# Altium schematic symbol library IND,10uH,150mA,Wirewound,0805.Schlib: 1 symbol
Pins are listed as number, name and electrical type; pins without a type are passive.

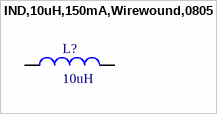
[diagram p0: symbol IND,10uH,150mA,Wirewound,0805]

## IND,10uH,150mA,Wirewound,0805
designator L?, comment 10uH
FIXED IND 10UH 150MA 360 MOHM
pins: 1, 2